# EAGLE library part QUECTEL_MC60 (library GSM)
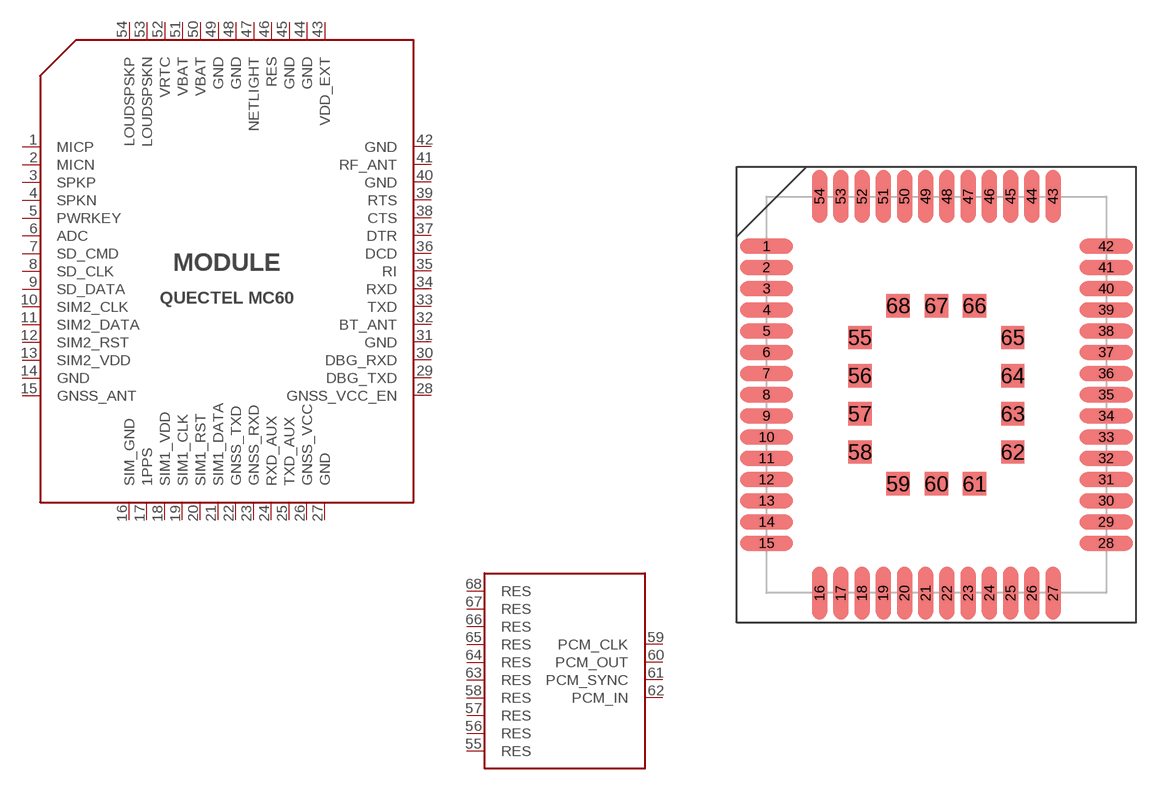
[diagram p4: symbol with the pads of QUECTEL_MC60; footprint QUECTEL_MC60]

Designator prefix MODULE

## QUECTEL_MC60  [QUECTEL_MC60]
1  MICP
2  MICN
3  SPKP
4  SPKN
5  PWRKEY
6  ADC
7  SD_CMD
8  SD_CLK
9  SD_DATA
10  SIM2_CLK
11  SIM2_DATA
12  SIM2_RST
13  SIM2_VDD
14  GND
15  GNSS_ANT
16  SIM_GND
17  1PPS
18  SIM1_VDD
19  SIM1_CLK
20  SIM1_RST
21  SIM1_DATA
22  GNSS_TXD
23  GNSS_RXD
24  RXD_AUX
25  TXD_AUX
26  GNSS_VCC
27  GND
28  GNSS_VCC_EN
29  DBG_TXD
30  DBG_RXD
31  GND
32  BT_ANT
33  TXD
34  RXD
35  RI
36  DCD
37  DTR
38  CTS
39  RTS
40  GND
41  RF_ANT
42  GND
43  VDD_EXT
44  GND
45  GND
46  RES
47  NETLIGHT
48  GND
49  GND
50  VBAT
51  VBAT
52  VRTC
53  LOUDSPSKN
54  LOUDSPSKP
55  RES
56  RES
57  RES
58  RES
59  PCM_CLK
60  PCM_OUT
61  PCM_SYNC
62  PCM_IN
63  RES
64  RES
65  RES
66  RES
67  RES
68  RES

## Footprint QUECTEL_MC60 (pad centres in mm)
smd 2.5 x 0.7: 1 -8,7; 2 -8,6; 3 -8,5; 4 -8,4; 5 -8,3; 6 -8,2; 7 -8,1; 8 -8,0; 9 -8,-1; 10 -8,-2; 11 -8,-3; 12 -8,-4; 13 -8,-5; 14 -8,-6; 15 -8,-7; 28 8,-7; 29 8,-6; 30 8,-5; 31 8,-4; 32 8,-3; 33 8,-2; 34 8,-1; 35 8,0; 36 8,1; 37 8,2; 38 8,3; 39 8,4; 40 8,5; 41 8,6; 42 8,7
smd 0.7 x 2.5: 16 -5.5,-9.35; 17 -4.5,-9.35; 18 -3.5,-9.35; 19 -2.5,-9.35; 20 -1.5,-9.35; 21 -0.5,-9.35; 22 0.5,-9.35; 23 1.5,-9.35; 24 2.5,-9.35; 25 3.5,-9.35; 26 4.5,-9.35; 27 5.5,-9.35; 43 5.5,9.35; 44 4.5,9.35; 45 3.5,9.35; 46 2.5,9.35; 47 1.5,9.35; 48 0.5,9.35; 49 -0.5,9.35; 50 -1.5,9.35; 51 -2.5,9.35; 52 -3.5,9.35; 53 -4.5,9.35; 54 -5.5,9.35
smd 1.1 x 1.1: 55 -3.6,2.7; 56 -3.6,0.9; 57 -3.6,-0.9; 58 -3.6,-2.7; 59 -1.8,-4.2; 60 0,-4.2; 61 1.8,-4.2; 62 3.6,-2.7; 63 3.6,-0.9; 64 3.6,0.9; 65 3.6,2.7; 66 1.8,4.2; 67 0,4.2; 68 -1.8,4.2